# EAGLE library part 40_PIN_SMD (library Parts)
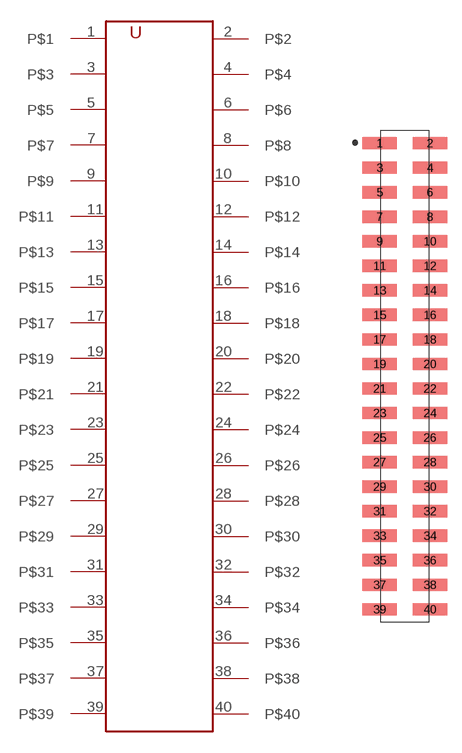
[diagram p4: symbol with the pads of 40_PIN_SMD; footprint 40_PIN_SMD]

Designator prefix -

## 40_PIN_SMD  [40_PIN_SMD]
1  P$1
2  P$2
3  P$3
4  P$4
5  P$5
6  P$6
7  P$7
8  P$8
9  P$9
10  P$10
11  P$11
12  P$12
13  P$13
14  P$14
15  P$15
16  P$16
17  P$17
18  P$18
19  P$19
20  P$20
21  P$21
22  P$22
23  P$23
24  P$24
25  P$25
26  P$26
27  P$27
28  P$28
29  P$29
30  P$30
31  P$31
32  P$32
33  P$33
34  P$34
35  P$35
36  P$36
37  P$37
38  P$38
39  P$39
40  P$40

## Footprint 40_PIN_SMD (pad centres in mm)
smd 3.555 x 1.27: 1 1.535,3.886; 2 6.745,3.886; 3 1.535,1.346; 4 6.745,1.346; 5 1.535,-1.194; 6 6.745,-1.194; 7 1.535,-3.734; 8 6.745,-3.734; 9 1.535,-6.274; 10 6.745,-6.274; 11 1.535,-8.814; 12 6.745,-8.814; 13 1.535,-11.354; 14 6.745,-11.354; 15 1.535,-13.894; 16 6.745,-13.894; 17 1.535,-16.434; 18 6.745,-16.434; 19 1.535,-18.974; 20 6.745,-18.974; 21 1.535,-21.514; 22 6.745,-21.514; 23 1.535,-24.054; 24 6.745,-24.054; 25 1.535,-26.594; 26 6.745,-26.594; 27 1.535,-29.134; 28 6.745,-29.134; 29 1.535,-31.674; 30 6.745,-31.674; 31 1.535,-34.214; 32 6.745,-34.214; 33 1.535,-36.754; 34 6.745,-36.754; 35 1.535,-39.294; 36 6.745,-39.294; 37 1.535,-41.834; 38 6.745,-41.834; 39 1.535,-44.374; 40 6.745,-44.374